# EAGLE library part 693010010601 (library WR-CRD)
WR-CRD SIM Card Connector (Mini SIM) Header - 6 pins KIND PROPERTIES Quality Class:5000 Mating cycles Gender:Socket Type:Header General Information Operating Temperature:-25 up to +85 °C Compliance:RoHS Electrical Properties IR 1:0.5A Working Voltage:50V (AC) Withstanding Voltage:500V (AC) Contact Resistance:50mΩ Material Properties Insulator MateriaL:LCP Insulator Flammability Rating:UL94 V-0 Color:Black Contact Material:Copper Alloy Contact Plating:Gold Contact Type:Stamped <https://www.we-online.com/components/media/o32835v209%20Family_Speicherkarten%20Sockel_WR-CRD_693010010601.jpg> Details see: www.we-online.com/en/components/products/CRD_MINI_SIM_HEADER_6_PINS Updated by Ella Wu 2021-05-27 2021 (C) Würth Elektronik
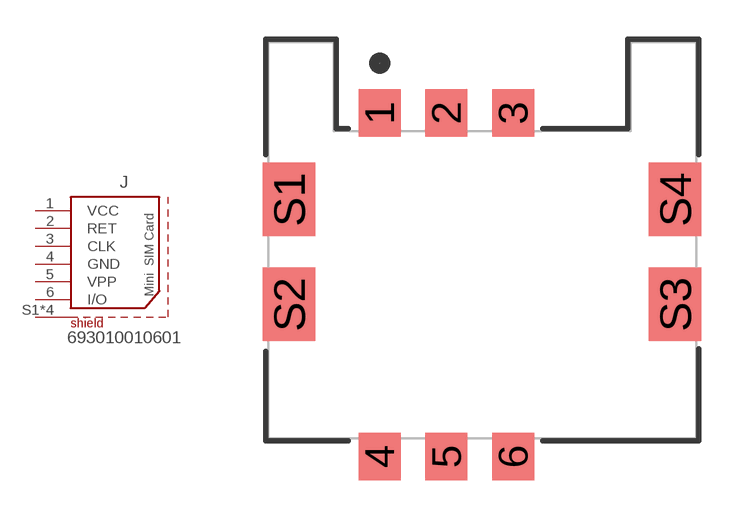
[diagram p5: symbol with the pads of 693010010601; footprint 693010010601]

Designator prefix J

## 693010010601 (DATASHEET-URL: https://www.we-online.com/redexpert/spec/693010010601?ae; GERDER: Socket; IR: 0.5A; MOUNT: SMT; PART-NUMBER: 693010010601; PINS: 6; TYPE: Header; VALUE: 693010010601; WORKING-VOLTAGE: 50V(AC))  [693010010601]
1  VCC
2  RET
3  CLK
4  GND
5  VPP
6  I/O
S1  SHIELD
S2  SHIELD
S3  SHIELD
S4  SHIELD

## Footprint 693010010601 (pad centres in mm)
WR-CRD SIM Card Connector (Mini SIM) Header - 6 pins
smd 1.6 x 1.8: 1 -3.9,5.3; 2 -1.36,5.3; 3 1.18,5.3; 4 -3.9,-7.8; 5 -1.36,-7.8; 6 1.18,-7.8
smd 2 x 2.8: S1 -7.35,2; S2 -7.35,-2; S3 7.35,-2; S4 7.35,2